# EAGLE library part PCF8885 (library nxp_60)
NXP Capacitive 8-channel proximity switch with auto-calibration and very low power consumption AAL Eindhoven MK
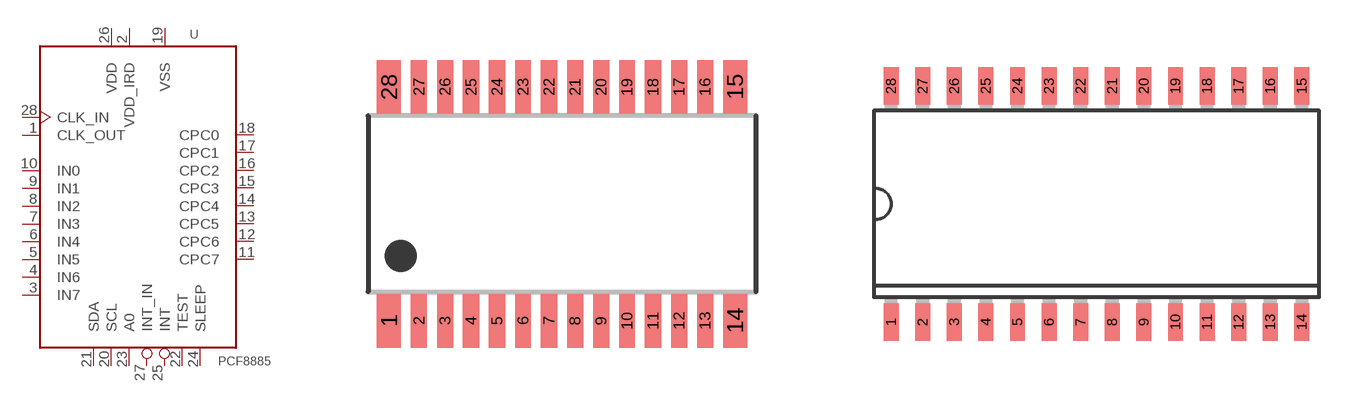
[diagram p2: symbol with the pads of SOT361-1; footprints SOT361-1, SOT136-1]

Designator prefix U

## PCF8885TS  [SOT361-1]
1  CLK_OUT  out
2  VDD_IRD  pwr
3  IN7  in
4  IN6  in
5  IN5  in
6  IN4  in
7  IN3  in
8  IN2  in
9  IN1  in
10  IN0  in
11  CPC7  pas
12  CPC6  pas
13  CPC5  pas
14  CPC4  pas
15  CPC3  pas
16  CPC2  pas
17  CPC1  pas
18  CPC0  pas
19  VSS  pwr
20  SCL  in
21  SDA
22  TEST  in
23  A0  in
24  SLEEP  in
25  INT  out
26  VDD  pwr
27  INT_IN  in
28  CLK_IN  in

## PCF8885T  [SOT136-1]
Pads as for SOT361-1

## Footprint SOT361-1 (pad centres in mm)
SOT361-1 TSSOP28: plastic thin shrink small outline package; 28 leads; body width 4.4 mm JEDEC: MO-153 IEC: ---
smd 0.6 x 1.35: 1 -4.325,-2.925; 14 4.325,-2.925; 15 4.325,2.925; 28 -4.325,2.925
smd 0.4 x 1.35: 2 -3.575,-2.925; 3 -2.925,-2.925; 4 -2.275,-2.925; 5 -1.625,-2.925; 6 -0.975,-2.925; 7 -0.325,-2.925; 8 0.325,-2.925; 9 0.975,-2.925; 10 1.625,-2.925; 11 2.275,-2.925; 12 2.925,-2.925; 13 3.575,-2.925; 16 3.575,2.925; 17 2.925,2.925; 18 2.275,2.925; 19 1.625,2.925; 20 0.975,2.925; 21 0.325,2.925; 22 -0.325,2.925; 23 -0.975,2.925; 24 -1.625,2.925; 25 -2.275,2.925; 26 -2.925,2.925; 27 -3.575,2.925

## Footprint SOT136-1 (pad centres in mm)
SOT136-1 SO28: plastic small outline package; 28 leads; body width 7.5 mm JEDEC: MS-013 IEC: 075E06
smd 0.6 x 1.5: 1 -8.255,-4.75; 2 -6.985,-4.75; 3 -5.715,-4.75; 4 -4.445,-4.75; 5 -3.175,-4.75; 6 -1.905,-4.75; 7 -0.635,-4.75; 8 0.635,-4.75; 9 1.905,-4.75; 10 3.175,-4.75; 11 4.445,-4.75; 12 5.715,-4.75; 13 6.985,-4.75; 14 8.255,-4.75; 15 8.255,4.75; 16 6.985,4.75; 17 5.715,4.75; 18 4.445,4.75; 19 3.175,4.75; 20 1.905,4.75; 21 0.635,4.75; 22 -0.635,4.75; 23 -1.905,4.75; 24 -3.175,4.75; 25 -4.445,4.75; 26 -5.715,4.75; 27 -6.985,4.75; 28 -8.255,4.75